# EAGLE library part PIC10*F322 (library microchip_pic10f)
Low pincount microcontroller http://www.microchip.com/wwwproducts/Devices.aspx?product=PIC10F322 Properties Parameter Name Value Program Memory Type Flash Program Memory (KB) 0.896 CPU Speed (MIPS) 4 RAM Bytes 64 Capture/Compare/PWM Peripherals 2 Timers 2 x 8-bit ADC 3 ch, 8-bit Temperature Range (C) -40 to 125 Operating Voltage Range (V) 1.8 to 5.5 Pin Count 6 Cap Touch Channels 3 Features Flash Program Memory with self read/write capability Mid-range core Emulated Data EE 35 Instruction, 8 Stack Levels, hardware interrupts Low Power Internal 16MHz / 31 kHz oscillator ‘F’ Variant for wide 2.3V – 5.5V operation LF’ Variant for low power 1.8V – 3.6V operation (2) stand-alone PWM’s (3) channel 8b ADC w/Vref Integrated Temperature Indicator Configurable Logic Cell (CLC) Complimentary Waveform Generator (CWG) Numerically Controlled Oscillator (NCO Two 8-bit Timers (TMR0/TMR2) Extended Watchdog Timer (EWDT) Brown-Out Reset (BOR) 25mA Source/Sink current I/O In Circuit Serial Programming (ICSP) Library from www.mikroelektroniikka.fi/lbr
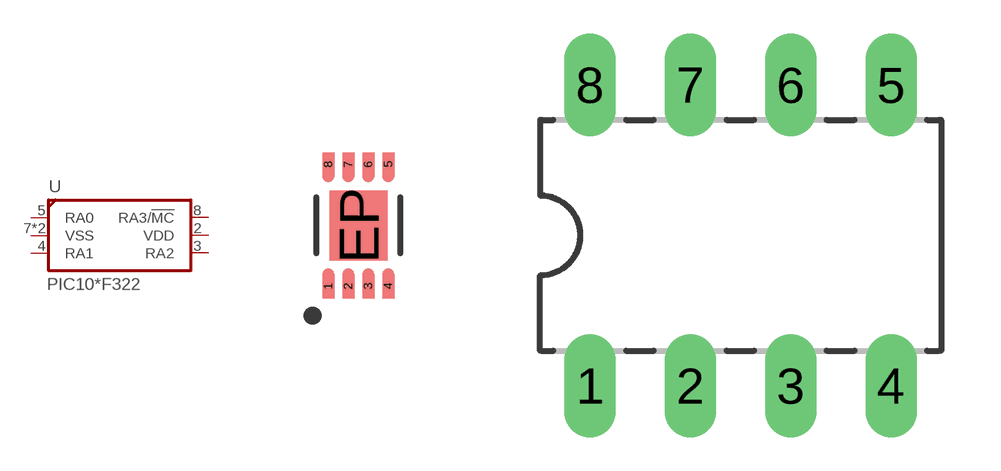
[diagram p7: symbol with the pads of DFN8; footprints DFN8, DIL08]

Designator prefix U

## PIC10F322MC (VALUE: PIC10F322-E/MC), PIC10LF322MC (VALUE: PIC10LF322-E/MC)  [DFN8]
2  VDD  pas
3  RA2
4  RA1
5  RA0
7  VSS  pas
8  RA3/!MC!  in
EP  VSS  pas

## PIC10F322P (VALUE: PIC10F322-E/P), PIC10LF322P (VALUE: PIC10LF322-E/P)  [DIL08]
2  VDD  pas
3  RA2
4  RA1
5  RA0
7  VSS  pas
8  RA3/!MC!  in

## PIC10F322OT (VALUE: PIC10F322-E/OT), PIC10LF322OT (VALUE: PIC10LF322-E/OT)  [SOT23-6L]
1  RA0
2  VSS  pas
3  RA1
4  RA2
5  VDD  pas
6  RA3/!MC!  in

## Footprint DFN8 (pad centres in mm)
DFN8 (MC) 8-Lead plastic dual flat, no lead package 2x3x0.9 mm (Microchip)
smd 0.3 x 0.6: 1 -0.75,-1.525; 2 -0.25,-1.525; 3 0.25,-1.525; 4 0.75,-1.525; 5 0.75,1.525; 6 0.25,1.525; 7 -0.25,1.525; 8 -0.75,1.525
smd 1.45 x 1.75: EP 0,0

## Footprint DIL08 (pad centres in mm)
Dual In Line Package
drill 0.8 pad 1.3 long: 1 -3.81,-3.81; 2 -1.27,-3.81; 3 1.27,-3.81; 4 3.81,-3.81; 5 3.81,3.81; 6 1.27,3.81; 7 -1.27,3.81; 8 -3.81,3.81

## Footprint SOT23-6L (pad centres in mm)
Small Outline Transistor
smd 0.6 x 1.1: 1 -0.95,-1.4; 2 0,-1.4; 3 0.95,-1.4; 4 0.95,1.4; 5 0,1.4; 6 -0.95,1.4